# Altium footprint library jumper.PCBLIB: 40 footprints (part 3 of 3)
Each footprint in its own frame and in the unit in brackets; x right, y up, seen from the top. Pads: shape width x height; smd on the part's side, far side on the other; paste and mask are expansions set on the pad; w line width, h text height; cw(c..) or ccw(c..) is an arc to the next point about the centre after c.
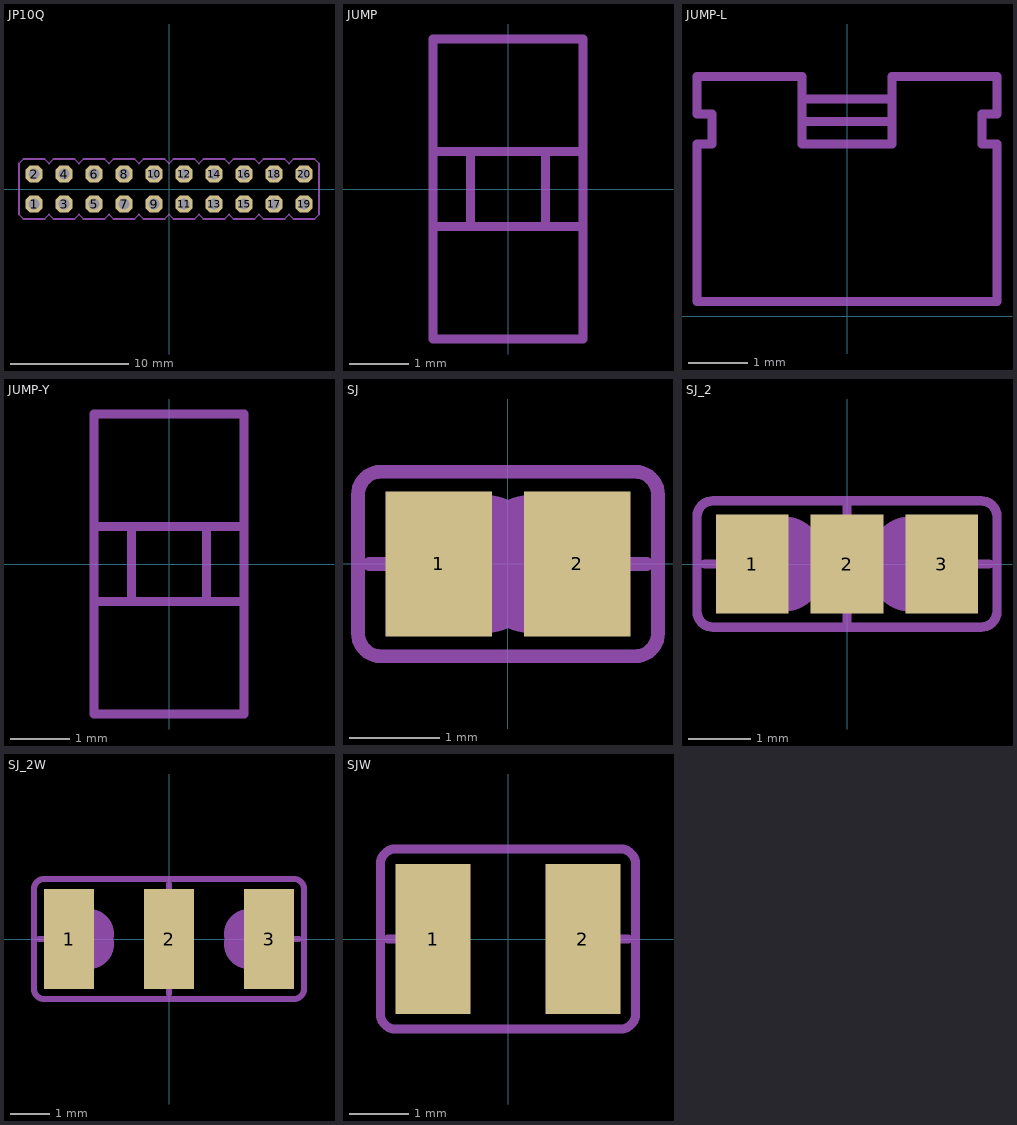
[diagram p2: the footprints below, top view; thin cyan lines are the x and y axes]

## JP10Q [mil]
pads (20):
  oct 56x56 / inner round 51.74 / far side oct 56x56 hole 36: 1(-450,-50) 2(-450,50) 3(-350,-50) 4(-350,50) 5(-250,-50) 6(-250,50) 7(-150,-50) 8(-150,50) 9(-50,-50) 10(-50,50) 11(50,-50) 12(50,50) 13(150,-50) 14(150,50) 15(250,-50) 16(250,50) 17(350,-50) 18(350,50) 19(450,-50) 20(450,50)
tDocu:
  region: -462,38 -462,62 -438,62 -438,38
  region: -362,38 -362,62 -338,62 -338,38
  region: -262,38 -262,62 -238,62 -238,38
  region: -162,38 -162,62 -138,62 -138,38
  region: -62,38 -62,62 -38,62 -38,38
  region: 38,38 38,62 62,62 62,38
  region: 138,38 138,62 162,62 162,38
  region: 238,38 238,62 262,62 262,38
  region: 338,38 338,62 362,62 362,38
  region: -462,-62 -462,-38 -438,-38 -438,-62
  region: -362,-62 -362,-38 -338,-38 -338,-62
  region: -262,-62 -262,-38 -238,-38 -238,-62
  region: -162,-62 -162,-38 -138,-38 -138,-62
  region: -62,-62 -62,-38 -38,-38 -38,-62
  region: 38,-62 38,-38 62,-38 62,-62
  region: 138,-62 138,-38 162,-38 162,-62
  region: 238,-62 238,-38 262,-38 262,-62
  region: 338,-62 338,-38 362,-38 362,-62
  region: 438,38 438,62 462,62 462,38
  region: 438,-62 438,-38 462,-38 462,-62
tPlace:
  lines w6: -500,-85 -500,85 -485,100 -415,100 -400,85 -385,100 -315,100 -300,85 -285,100 -215,100 -200,85 -185,100 -115,100 -100,85 -85,100 -15,100 0,85 15,100 85,100 100,85 115,100 185,100 200,85 215,100 285,100 300,85 315,100 385,100 400,85 415,100 485,100 500,85 500,-85 485,-100 415,-100 400,-85 385,-100 315,-100 300,-85 285,-100 215,-100 200,-85 185,-100 115,-100 100,-85 85,-100 15,-100 0,-85 -15,-100 -85,-100 -100,-85 -115,-100 -185,-100 -200,-85 -215,-100 -285,-100 -300,-85 -315,-100 -385,-100 -400,-85 -415,-100 -485,-100 -500,-85
  text "1" at -470,-165 h77.5
  text "2" at -370,-165 h77.5
  text "3" at -270,-165 h77.5
  text "4" at -170,-165 h77.5
  text "5" at -70,-165 h77.5
  text "6" at 30,-165 h77.5
  text "7" at 130,-165 h77.5
  text "8" at 230,-165 h77.5
  text "9" at 330,-165 h77.5
  text "10" at 405,-165 h77.5

## JUMP [mil]
tDocu:
  lines w6: -25,-25 25,-25 ; -25,25 25,25
tPlace:
  lines w6: -50,-25 -50,-100 50,-100 50,-25 ; -50,-25 -25,-25 -25,25 -50,25 ; -50,-25 -50,25 ; -50,25 -50,100 50,100 50,25 ; 50,-25 25,-25 25,25 50,25 ; 50,-25 50,25

## JUMP-L [mil]
tPlace:
  lines w6: -30,130 30,130 ; -30,130 -30,145 ; -30,130 -30,115 30,115 30,130 ; -30,145 -30,160 -100,160 -100,135 -90,135 -90,115 -100,115 -100,10 100,10 100,115 90,115 90,135 100,135 100,160 30,160 30,145 ; -30,145 30,145 ; 30,130 30,145

## JUMP-Y [mil]
tDocu:
  lines w6: -50,-80 -50,-25 ; -50,-20 -50,-25 ; -50,20 -50,25 ; -50,80 -50,25 ; -25,-10 -25,-25 ; -25,10 -25,25 ; 25,-10 25,-25 ; 25,10 25,25 ; 50,-80 50,-25 ; 50,-20 50,-25 ; 50,20 50,25 ; 50,80 50,25 ; -50,-25 -25,-25 ; -50,25 -25,25 ; -25,-25 25,-25 ; -25,25 25,25 ; 25,-25 50,-25 ; 25,25 50,25
tPlace:
  lines w6: -50,-80 -50,-100 50,-100 50,-80 ; -50,-20 -50,20 ; -50,80 -50,100 50,100 50,80 ; -25,-10 -25,10 ; 25,-10 25,10 ; 50,-20 50,20

## SJ [mil]
pads (2):
  rect 46x63 smd: 1(-30,0) 2(30,0)
Top Solder:
  region: -3,-36 -3,36 3,36 3,-36
tDocu:
  lines w6: -60,0 -40,0 ; 40,0 60,0
  lines w50: -10,-5 cw(c-10,0) -10,5 ; 10,-5 ccw(c10,0) 10,5
tPlace:
  lines w6: -65,-30 ccw(c-55,-30) -55,-40 55,-40 ccw(c55,-30) 65,-30 65,30 ccw(c55,30) 55,40 -55,40 ccw(c-55,30) -65,30 -65,-30

## SJ_2 [mil]
pads (3):
  rect 46x63 smd: 1(-60,0) 2(0,0) 3(60,0)
tDocu:
  region: -20,-30 -20,30 20,30 20,-30
  lines w6: -90,0 -70,0 ; 0,-40 0,-30 ; 0,30 0,40 ; 70,0 90,0
  lines w50: -40,-5 cw(c-40,0) -40,5 ; 40,-5 ccw(c40,0) 40,5
tPlace:
  lines w6: -95,-30 ccw(c-85,-30) -85,-40 85,-40 ccw(c85,-30) 95,-30 95,30 ccw(c85,30) 85,40 -85,40 ccw(c-85,30) -95,30 -95,-30

## SJ_2W [mil]
pads (3):
  rect 50x100 smd: 1(-100,0) 2(0,0) 3(100,0)
tDocu:
  region: -20,-30 -20,30 20,30 20,-30
  lines w6: -130,0 -110,0 ; 0,-55 0,-30 ; 0,30 0,55 ; 110,0 130,0
  lines w50: -80,-5 cw(c-80,0) -80,5 ; 80,-5 ccw(c80,0) 80,5
tPlace:
  lines w6: -135,-50 ccw(c-125,-50) -125,-60 125,-60 ccw(c125,-50) 135,-50 135,50 ccw(c125,50) 125,60 -125,60 ccw(c-125,50) -135,50 -135,-50

## SJW [mil]
pads (2):
  rect 50x100 smd: 1(-50,0) 2(50,0)
tDocu:
  region: 30,-30 30,30 40,30 40,-30
  region: 40,-25 40,25 50,25 50,-25
  region: 50,-20 50,20 55,20 55,-20
  region: 55,-10 55,10 60,10 60,-10
  region: -40,-30 -40,30 -30,30 -30,-30
  region: -50,-25 -50,25 -40,25 -40,-25
  region: -55,-20 -55,20 -50,20 -50,-20
  region: -60,-10 -60,10 -55,10 -55,-10
  region: 38,-28 38,-23 43,-23 43,-28
  region: 53,-14 53,-9 58,-9 58,-14
  region: 53,8 53,13 58,13 58,8
  region: 38,23 38,28 43,28 43,23
  region: -43,-28 -43,-23 -38,-23 -38,-28
  region: -57,-13 -57,-8 -52,-8 -52,-13
  region: -58,8 -58,13 -53,13 -53,8
  region: -44,23 -44,28 -39,28 -39,23
  lines w6: -80,0 -60,0 ; 60,0 80,0 ; -30,-30 -30,30 ccw(c-30,0) -30,-30 ; 30,-30 30,30 cw(c30,0) 30,-30
tPlace:
  lines w6: -85,-50 ccw(c-75,-50) -75,-60 75,-60 ccw(c75,-50) 85,-50 85,50 ccw(c75,50) 75,60 -75,60 ccw(c-75,50) -85,50 -85,-50